# Altium schematic symbol library 691 244 710 0xx.SchLib: 7 symbols
Pins are listed as number, name and electrical type; pins without a type are passive.

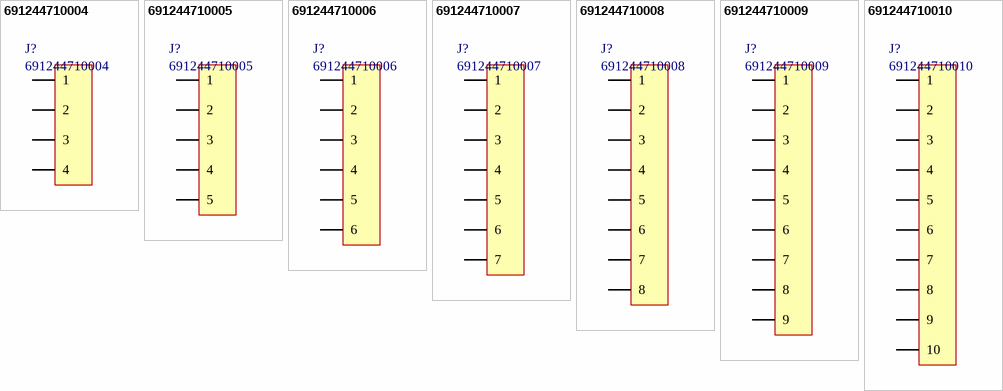
[diagram p0: symbols 691244710004 to 691244710010]

## 691244710004
designator J?
Horizontal Cable Entry with Rising Cage Clamp, Serie 2447 - 5mm; Manufacturer: Wurth Elektronik; ComponentLink1 Description: Manufacturer; ComponentLink2 Description: Datasheet; NoPins: 4; ComponentLink1 URL: http://www.we-online.com; ComponentLink2 URL: http://katalog.we-online.de/em/datasheet/6912447100xx.pdf; Created By: Baojun Chen; Created Date: 27.Aug.2015; PartNo: 691244710004
footprint 691244710004 (Serie 2447 - 5.00 mm _ 4 pins)
pins: 1, 2, 3, 4

## 691244710005
designator J?
Horizontal Cable Entry with Rising Cage Clamp, Serie 2447 - 5mm; Manufacturer: Wurth Elektronik; ComponentLink1 Description: Manufacturer; ComponentLink2 Description: Datasheet; NoPins: 5; ComponentLink1 URL: http://www.we-online.com; ComponentLink2 URL: http://katalog.we-online.de/em/datasheet/6912447100xx.pdf; Created By: Baojun Chen; Created Date: 27.Aug.2015; PartNo: 691244710005
footprint 691244710005 (Serie 2447 - 5.00 mm _ 5 pins)
pins: 1, 2, 3, 4, 5

## 691244710006
designator J?
Horizontal Cable Entry with Rising Cage Clamp, Serie 2447 - 5mm; Manufacturer: Wurth Elektronik; ComponentLink1 Description: Manufacturer; ComponentLink2 Description: Datasheet; NoPins: 6; ComponentLink1 URL: http://www.we-online.com; ComponentLink2 URL: http://katalog.we-online.de/em/datasheet/6912447100xx.pdf; Created By: Baojun Chen; Created Date: 27.Aug.2015; PartNo: 691244710006
footprint 691244710006 (Serie 2447 - 5.00 mm _ 6 pins)
pins: 1, 2, 3, 4, 5, 6

## 691244710007
designator J?
Horizontal Cable Entry with Rising Cage Clamp, Serie 2447 - 5mm; Manufacturer: Wurth Elektronik; ComponentLink1 Description: Manufacturer; ComponentLink2 Description: Datasheet; NoPins: 7; ComponentLink1 URL: http://www.we-online.com; ComponentLink2 URL: http://katalog.we-online.de/em/datasheet/6912447100xx.pdf; Created By: Baojun Chen; Created Date: 27.Aug.2015; PartNo: 691244710007
footprint 691244710007 (Serie 2447 - 5.00 mm _ 7 pins)
pins: 1, 2, 3, 4, 5, 6, 7

## 691244710008
designator J?
Horizontal Cable Entry with Rising Cage Clamp, Serie 2447 - 5mm; Manufacturer: Wurth Elektronik; ComponentLink1 Description: Manufacturer; ComponentLink2 Description: Datasheet; NoPins: 8; ComponentLink1 URL: http://www.we-online.com; ComponentLink2 URL: http://katalog.we-online.de/em/datasheet/6912447100xx.pdf; Created By: Baojun Chen; Created Date: 27.Aug.2015; PartNo: 691244710008
footprint 691244710008 (Serie 2447 - 5.00 mm _ 8 pins)
pins: 1, 2, 3, 4, 5, 6, 7, 8

## 691244710009
designator J?
Horizontal Cable Entry with Rising Cage Clamp, Serie 2447 - 5mm; Manufacturer: Wurth Elektronik; ComponentLink1 Description: Manufacturer; ComponentLink2 Description: Datasheet; NoPins: 9; ComponentLink1 URL: http://www.we-online.com; ComponentLink2 URL: http://katalog.we-online.de/em/datasheet/6912447100xx.pdf; Created By: Baojun Chen; Created Date: 27.Aug.2015; PartNo: 691244710009
footprint 691244710009 (Serie 2447 - 5.00 mm _ 9 pins)
pins: 1, 2, 3, 4, 5, 6, 7, 8, 9

## 691244710010
designator J?
Horizontal Cable Entry with Rising Cage Clamp, Serie 2447 - 5mm; Manufacturer: Wurth Elektronik; ComponentLink1 Description: Manufacturer; ComponentLink2 Description: Datasheet; NoPins: 10; ComponentLink1 URL: http://www.we-online.com; ComponentLink2 URL: http://katalog.we-online.de/em/datasheet/6912447100xx.pdf; Created By: Baojun Chen; Created Date: 27.Aug.2015; PartNo: 691244710010
footprint 691244710010 (Serie 2447 - 5.00 mm _ 10 pins)
pins: 1, 2, 3, 4, 5, 6, 7, 8, 9, 10